# Altium integrated library MyOwnParts.IntLib: 12 symbols
Pins are listed as number, name and electrical type; pins without a type are passive.

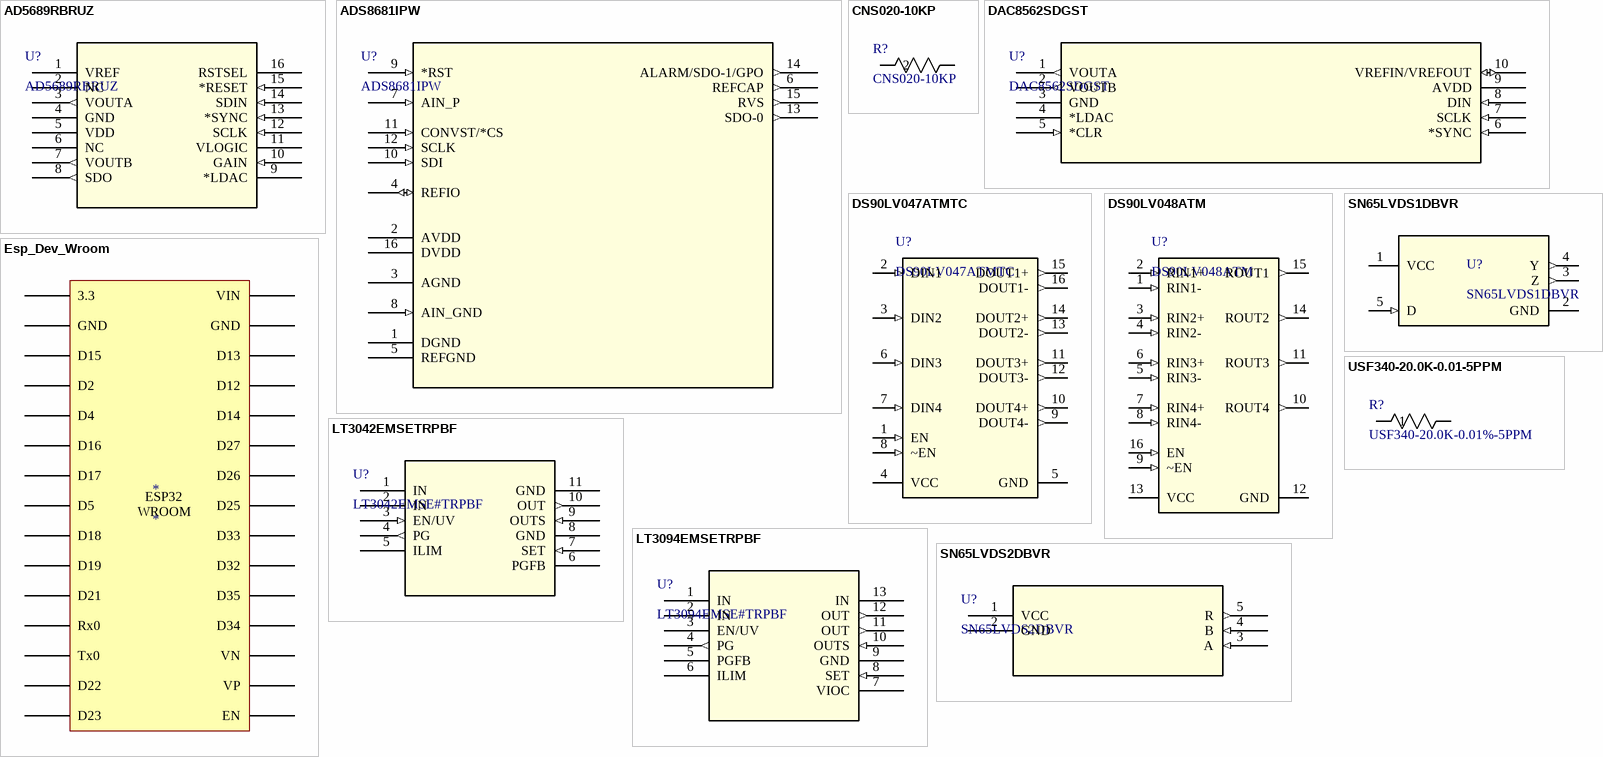
[diagram p0: symbols AD5689RBRUZ to USF340-20.0K-0.01-5PPM]

## AD5689RBRUZ
designator U?
Dual, 16-Bit nanoDAC+ with 2 ppm/Â°C Reference, SPI Interface; Manufacturer_Name: Analog Devices Inc; Copyright: Copyright (C) 2026 Ultra Librarian. All rights reserved.; Manufacturer_Part_Number: AD5689RBRUZ; RefDes: RefDes; Type: Type
footprint RU_16_ADI
pins: 1 VREF (power), 2 NC, 3 VOUTA (out), 4 GND (power), 5 VDD (power), 6 NC, 7 VOUTB (out), 8 SDO (out), 9 *LDAC, 10 GAIN (in), 11 VLOGIC (power), 12 SCLK (in), 13 *SYNC (in), 14 SDIN (in), 15 *RESET (in), 16 RSTSEL (power)

## ADS8681IPW
designator U?
16-bit, 1MSPS 1-ch SAR ADC with programmable (Â±12V, Â±10V, Â±6V, Â±5V, Â±2.5V) input ranges on 5V supply 16-TSSOP -40 to 125; Manufacturer_Name: Texas Instruments; Copyright: Copyright (C) 2025 Ultra Librarian. All rights reserved.; Manufacturer_Part_Number: ADS8681IPW; RefDes: RefDes; Type: Type
footprint PW16_TEX
pins: 1 DGND (power), 2 AVDD (power), 3 AGND (power), 4 REFIO (io), 5 REFGND (power), 6 REFCAP (out), 7 AIN_P (in), 8 AIN_GND (in), 9 *RST (in), 10 SDI (in), 11 CONVST/*CS (in), 12 SCLK (in), 13 SDO-0 (out), 14 ALARM/SDO-1/GPO (out), 15 RVS (out), 16 DVDD (power)

## CNS020-10KP
designator R?
CNS 020 10K 0,02% e2; Manufacturer_Name: Vishay; Copyright: Copyright (C) 2026 Ultra Librarian. All rights reserved.; Manufacturer_Part_Number: CNS020-10KP; Datasheet: https://www.vishay.com/doc?60051
footprint RES_CNS020_VIS
pins: 1, 2

## DAC8562SDGST
designator U?
16-bit, dual-channel, low-power, ultra-low glitch, voltage output DAC with 2.5V, 4ppm/Â°C reference 10-VSSOP -40 to 125; Manufacturer_Name: Texas Instruments; Copyright: Copyright (C) 2026 Ultra Librarian. All rights reserved.; Manufacturer_Part_Number: DAC8562SDGST; RefDes: RefDes; Type: Type
footprint DGS10
pins: 1 VOUTA (out), 2 VOUTB (out), 3 GND (power), 4 *LDAC, 5 *CLR (in), 6 *SYNC (in), 7 SCLK (in), 8 DIN (in), 9 AVDD (power), 10 VREFIN/VREFOUT (io)

## DS90LV047ATMTC
designator U?
400-Mbps LVDS quad high-speed differential driver 16-TSSOP -40 to 85; Manufacturer_Name: Texas Instruments; Manufacturer: NationalSemiconductor; PackageTopMarking: NS2ZXYTTDS90LV047AT; PowerWise: N; CompType: InterfaceIC; ComponentLink1DescBC: DS90LV047ADatasheet; ComponentLink2DescA4: DS90LV047AWebPage; ComponentLink3DescAC: MTC16PackagePage; Copyright: Copyright (C) 2025 Ultra Librarian. All rights reserved.; Manufacturer_Part_Number: DS90LV047ATMTC; Published: 4-Dec-2008; DatasheetVersion: Jan-2003; PackageVersion: revDJun-2003; PackageReference: MTC16; Publisher: AltiumLimited; PackageDescription: MoldedTSSOPJedec5x44x09mmBody16Lead065mmPitch; Supplier: 1Farnell; SUPPLIER_2: PartNumb0C9778659; PartNumber: DS90LV047ATMTC; RoHS: N; PinCount: 16; Code_JEDEC: MO-153-AB; ComponentLink1URL: http//wwwnationalcom/ds/DS/DS90LV047Apdf; ComponentLink2URL: http//wwwnationalcom/pf/DS/DS90LV047Ahtml; ComponentLink3URL: http//wwwnationalcom/packaging/folders/mtc16html
footprint SOIC-16N (SOIC, 16-Leads, Body 10,30x7,50mm, Pitch 1,27mm, IPC Medium Density)
pins: 1 EN (in), 2 DIN1 (in), 3 DIN2 (in), 4 VCC (power), 5 GND (power), 6 DIN3 (in), 7 DIN4 (in), 8 ~EN (in), 9 DOUT4- (out), 10 DOUT4+ (out), 11 DOUT3+ (out), 12 DOUT3- (out), 13 DOUT2- (out), 14 DOUT2+ (out), 15 DOUT1+ (out), 16 DOUT1- (out)

## DS90LV048ATM
designator U?
400-Mbps LVDS quad high-speed differential receiver 16-SOIC -40 to 85; Manufacturer_Name: Texas Instruments; Manufacturer: NationalSemiconductor; PackageTopMarking: NS2ZXYTTE#DS90LV048ATM; PowerWise: N; CompType: InterfaceIC; ComponentLink1DescBC: DS90LV048ADatasheet; ComponentLink2DescA4: DS90LV048AWebPage; ComponentLink3DescAC: M16APackagePage; Copyright: Copyright (C) 2026 Ultra Librarian. All rights reserved.; Manufacturer_Part_Number: DS90LV048ATM; Datasheet: https://www.ti.com/lit/gpn/ds90lv048a; Published: 4-Dec-2008; DatasheetVersion: May-2001; PackageVersion: revJAug-1995; PackageReference: M16A; Publisher: AltiumLimited; PackageDescription: MoldedPackageSO150inWide16Lead; Supplier: 1Farnell; SUPPLIER_2: PartNumb0C9485856; PartNumber: DS90LV048ATM; RoHS: N; PinCount: 16; Code_JEDEC: MS-012-AC; Code_IPC: SOIC127P600-16; ComponentLink1URL: http//wwwnationalcom/ds/DS/DS90LV048Apdf; ComponentLink2URL: http//wwwnationalcom/pf/DS/DS90LV048Ahtml; ComponentLink3URL: http//wwwnationalcom/packaging/folders/m16ahtml
footprint SOIC-16N (SOIC, 16-Leads, Body 10,30x7,50mm, Pitch 1,27mm, IPC Medium Density)
pins: 1 RIN1- (in), 2 RIN1+ (in), 3 RIN2+ (in), 4 RIN2- (in), 5 RIN3- (in), 6 RIN3+ (in), 7 RIN4+ (in), 8 RIN4- (in), 9 ~EN (in), 10 ROUT4 (out), 11 ROUT3 (out), 12 GND (power), 13 VCC (power), 14 ROUT2 (out), 15 ROUT1 (out), 16 EN (in)

## Esp_Dev_Wroom
designator *
footprint PCBComponent_1
pins: 1 3.3, 2 GND, 3 D15, 4 D2, 5 D4, 6 D16, 7 D17, 8 D5, 9 D18, 10 D19, 11 D21, 12 Rx0, 13 Tx0, 14 D22, 15 D23, 16 VIN, 17 GND, 18 D13, 19 D12, 20 D14, 21 D27, 22 D26, 23 D25, 24 D33, 25 D32, 26 D35, 27 D34, 28 VN, 29 VP, 30 EN
text: ESP32; WROOM

## LT3042EMSETRPBF
designator U?, comment LT3042EMSE#TRPBF
20V, 200mA, Ultralow Noise, Ultrahigh PSRR RF Linear Regulator; Manufacturer_Name: Analog Devices Inc; Type: Power Management; Copyright: Copyright (C) 2025 Ultra Librarian. All rights reserved.; Manufacturer_Part_Number: LT3042EMSE#TRPBF; RefDes: RefDes
footprint 05-08-1664_ADI
pins: 1 IN (power), 2 IN (power), 3 EN/UV (in), 4 PG (out), 5 ILIM, 6 PGFB, 7 SET (in), 8 GND (power), 9 OUTS (in), 10 OUT (out), 11 GND (power)

## LT3094EMSETRPBF
designator U?, comment LT3094EMSE#TRPBF
âˆ’20V, 500mA, Ultralow Noise, Ultrahigh PSRR Negative Linear Regulator; Manufacturer_Name: Analog Devices Inc; Copyright: Copyright (C) 2025 Ultra Librarian. All rights reserved.; Manufacturer_Part_Number: LT3094EMSE#TRPBF; RefDes: RefDes; Type: Type
footprint MSE_05-08-1666_ADI
pins: 1 IN (power), 2 IN (power), 3 EN/UV, 4 PG (out), 5 PGFB, 6 ILIM, 7 VIOC (power), 8 SET (in), 9 GND (power), 10 OUTS (in), 11 OUT (out), 12 OUT (out), 13 IN (power)

## SN65LVDS1DBVR
designator U?
630-Mbps single LVDS driver 5-SOT-23 -40 to 85; Manufacturer_Name: Texas Instruments; Alternate_PartNumber: SN65LVDS1DBVT; CompType: IC; TYPE: TYPE; RefDes: RefDes; Copyright: Copyright (C) 2026 Ultra Librarian. All rights reserved.; Manufacturer_Part_Number: SN65LVDS1DBVR; PartNumber: SN65LVDS1DBVR; PackageReference: DBV0005A; MountType: SMT; RoHS: Y; Manufacturer: Texas Instruments
footprint DBV5
pins: 1 VCC, 2 GND (power), 3 Z (out), 4 Y (out), 5 D (in)

## SN65LVDS2DBVR
designator U?
400-Mbps LVDS single high-speed receiver 5-SOT-23 -40 to 85; Manufacturer_Name: Texas Instruments; Copyright: Copyright (C) 2026 Ultra Librarian. All rights reserved.; Manufacturer_Part_Number: SN65LVDS2DBVR; RefDes: RefDes; Type: Type
footprint DBV5
pins: 1 VCC (power), 2 GND (power), 3 A (in), 4 B (in), 5 R (out)

## USF340-20.0K-0.01-5PPM
designator R?, comment USF340-20.0K-0.01%-5PPM
No Description Available; Manufacturer_Name: Caddock; Copyright: Copyright (C) 2026 Ultra Librarian. All rights reserved.; Manufacturer_Part_Number: USF340-20.0K-0.01%-5PPM
footprint RES_USF340_CDD
pins: 1, 2